# Altium schematic symbol library Resistors.SchLib: 102 symbols
Pins are listed as number, name and electrical type; pins without a type are passive.

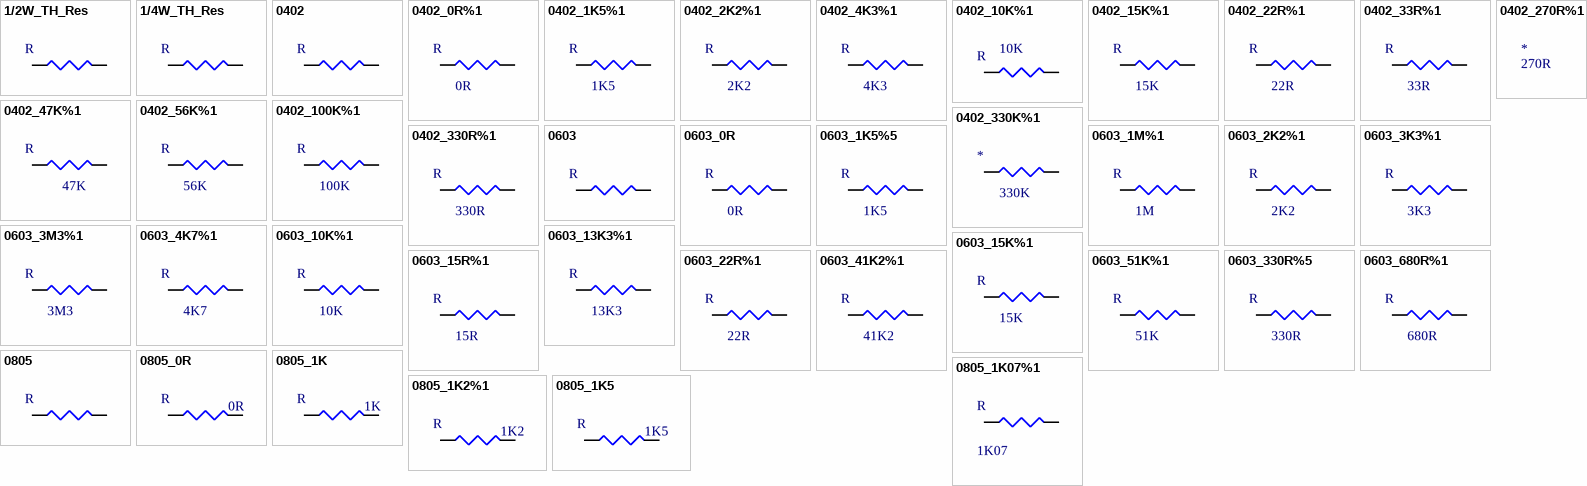
[diagram p0: symbols 1/2W_TH_Res to 0805_1K07%1]

## 1/2W_TH_Res
designator R  (value not drawn)
footprint 1/2W RES
pins: 1, 2

## 1/4W_TH_Res
designator R  (value not drawn)
footprint 1/4W RES
footprint 1/4W RES Vertical
pins: 1, 2

## 0402
designator R  (value not drawn)
footprint 0402 Resistor
pins: 1, 2

## 0402_0R%1
designator R  value 0R  (hidden comment: *)
Manufacturer: VISHAY DRALORIC; Manufacturer Code: CRCW04020000Z0ED; Tolerance: ±1%; Temperature Coefficient: ±100ppm/°C; Power Rating: 125mW; Farnell Code: 1469661; Unit Price: 0,027 €
footprint 0402 Resistor
pins: 1, 2

## 0402_1K5%1
designator R  value 1K5  (hidden comment: *)
Manufacturer: VISHAY DRALORIC; Manufacturer Code: CRCW04021K50FKEAHP; Tolerance: ±1%; Temperature Coefficient: ±100ppm/°C; Power Rating: 125mW; Farnell Code: 1738852; Unit Price: 0,031 €
footprint 0402 Resistor
pins: 1, 2

## 0402_2K2%1
designator R  value 2K2  (hidden comment: *)
Manufacturer: VISHAY DRALORIC; Manufacturer Code: CRCW04022K20FKEAHP; Tolerance: ±1%; Temperature Coefficient: ±100ppm/°C; Power Rating: 125mW; Farnell Code: 1738854; Unit Price: 0,031 €
footprint 0402 Resistor
pins: 1, 2

## 0402_4K3%1
designator R  value 4K3  (hidden comment: *)
Manufacturer: VISHAY DRALORIC; Manufacturer Code: CRCW04024K30FKED; Tolerance: ±1%; Temperature Coefficient: ±100ppm/°C; Power Rating: 125mW; Farnell Code: 2140828; Unit Price: 0,013 €
footprint 0402 Resistor
pins: 1, 2

## 0402_10K%1
designator R  value 10K  (hidden comment: *)
Manufaturer: VISHAY DRALORIC; Manufacturer Code: CRCW040210K0FKEAHP; Tolerance: ±1%; Temperature Coefficient: ±100ppm/°C; Power Rating: 125mW; Farnell Code: 1738864; Unit Price: 0,031 €
footprint 0402 Resistor
pins: 1, 2

## 0402_15K%1
designator R  value 15K  (hidden comment: *)
Manufacturer: WELWYN; Manufacturer Code: ASC0402-15KFT10; Tolerance: ±1%; Temperature Coefficient: ±100ppm/°C; Power Rating: 62.5mW; Farnell Code: 2078869; Unit Price: 0,0099 €; MOQ: 10
footprint 0402 Resistor
pins: 1, 2

## 0402_22R%1
designator R  value 22R  (hidden comment: *)
Manufacturer: MULTICOMP; Manufacturer Code: MC00625W0402122R; Tolerance: ±1%; Temperature Coefficient: ±200ppm/°C; Power Rating: 62.5mW; Farnell Code: 1357998RL; Unit Price: 0,0016 €; MOQ: 1
footprint 0402 Resistor
pins: 1, 2

## 0402_33R%1
designator R  value 33R  (hidden comment: *)
Manufacturer: VISHAY DRALORIC; Manufacturer Code: CRCW040233R0FKEAHP; Tolerance: ±1%; Temperature Coefficient: ±100ppm/K; Power Rating: 125mW; Farnell Code: 1738830; Unit Price: 0,031 €
footprint 0402 Resistor
pins: 1, 2

## 0402_47K%1
designator R  value 47K  (hidden comment: *)
Manufacturer: VISHAY DRALORIC; Manufacturer Code: CRCW040247K0FKED; Tolerance: ±1%; Temperature Coefficient: ±100ppm/°C; Power Rating: 125mW; Farnell Code: 2121814; Unit Price: 0,003 €
footprint 0402 Resistor
pins: 1, 2

## 0402_56K%1
designator R  value 56K  (hidden comment: *)
Manufacturer: VISHAY DRALORIC; Manufacturer Code: CRCW040256K0FKEAHP; Tolerance: ±1%; Power Rating: 125mW; Temperature Coefficient: ±100ppm/K; Farnell Code: 1738874; Unit Price: 0,031 €
footprint 0402 Resistor
pins: 1, 2

## 0402_100K%1
designator R  value 100K  (hidden comment: *)
Manufacturer: VISHAY DRALORIC; Manufacturer Code: CRCW0402100KFKEAHP; Tolerance: ±1%; Temperature Coefficient: ±100ppm/K; Power Rating: 125mW; Farnell Code: 1738877; Unit Price: 0,031 €
footprint 0402 Resistor
pins: 1, 2

## 0402_270R%1
designator *  value 270R  (hidden comment: *)
Manufacturer: VISHAY DRALORIC; Manufacturer Code: CRCW0402270RFKEAHP; Tolerance: ±1%; Temperature Coefficient: ±100ppm/K; Power Rating: 125mW; Farnell Code: 1738842; Unit Price: 0,031 €
footprint 0402 Resistor

## 0402_330K%1
designator *  value 330K  (hidden comment: *)
Manufacturer: VISHAY DRALORIC; Manufacturer Code: CRCW0402330KFKED; Tolerance: ±1%; Temperature Coefficient: ±100ppm/°C; Power Rating: 125mW; Farnell Code: 2140980; Unit Price: 0,013 €
footprint 0402 Resistor
pins: 1, 2

## 0402_330R%1
designator R  value 330R  (hidden comment: *)
Manufacturer: VISHAY DRALORIC; Manufacturer Code: CRCW0402330RFKEAHP; Tolerance: ±1%; Temperature Coefficient: ±100ppm/°C; Power Rating: 125mW; Farnell Code: 1738843; Unit Price: 0,036 €
footprint 0402 Resistor
pins: 1, 2

## 0603
designator R  (value not drawn)
footprint 0603 Resistor
pins: 1, 2

## 0603_0R
designator R  value 0R  (hidden comment: *)
Manufacturer: MULTICOMP; Manufacturer Code: MC0063W06030R; Power Rating: 63mW; Tolerance: -; Farnell Code: 9331662; Unit Price: 0,0097 €; Temperature Coefficient: -; MOQ: 10; Package: 0603
footprint 0603 Resistor
pins: 1, 2

## 0603_1K5%5
designator R  value 1K5  (hidden comment: *)
Manufacturer: MULTICOMP; Manufacturer Code: MC0063W060351K5; Tolerance: ±1%; Temperature Coefficient: ±100ppm/°C; Power Rating: 63mW; Farnell Code: 9331808; Unit Price: 0,0098 €; MOQ: 10; Package: 0603
footprint 0603 Resistor
pins: 1, 2

## 0603_1M%1
designator R  value 1M  (hidden comment: *)
Manufacturer: MULTICOMP; Manufacturer Code: MCMR06X1004FTL; Tolerance: ±1%; Temperature Coefficient: ±100ppm/°C; Power Rating: 100mW; Farnell Code: 2073351; Unit Price: 0,0139 €; MOQ: 10; Package: 0603
footprint 0603 Resistor
pins: 1, 2

## 0603_2K2%1
designator R  value 2K2  (hidden comment: *)
Manufacturer: MULTICOMP; Manufacturer Code: MCMR06X2201FTL; Tolerance: ±1%; Temperature Coefficient: ±100ppm/°C; Power Rating: 100mW; Farnell Code: 2073429; Unit Price: 0,0151 €; MOQ: 10; Package: 0603
footprint 0603 Resistor
pins: 1, 2

## 0603_3K3%1
designator R  value 3K3  (hidden comment: *)
Manufacturer: MULTICOMP; Manufacturer Code: MCSR06X3301FTL; Tolerance: ±1%; Temperature Coefficient: ±100ppm/°C; Power Rating: 100mW; Farnell Code: 2074241; Unit Price: 0,0208 €; MOQ: 10; Package: 0603
footprint 0603 Resistor
pins: 1, 2

## 0603_3M3%1
designator R  value 3M3  (hidden comment: *)
Manufacturer: MULTICOMP; Manufacturer Code: MCMR06W3304FTL; Tolerance: ±1%; Temperature Coefficient: ±100ppm/°C; Power Rating: 100mW; Farnell Code: 2073343; Unit Price: 0,0235 €; MOQ: 10; Package: 0603
footprint 0603 Resistor
pins: 1, 2

## 0603_4K7%1
designator R  value 4K7  (hidden comment: *)
Manufacturer: MULTICOMP; Manufacturer Code: MCMR06X4701FTL; Tolerance: ±1%; Temperature Coefficient: ±100ppm/°C; Power Rating: 100mW; Farnell Code: 2073509; Unit Price: 0,0148 €; MOQ: 10; Package: 0603
footprint 0603 Resistor
pins: 1, 2

## 0603_10K%1
designator R  value 10K  (hidden comment: *)
Manufacturer: MULTICOMP; Manufacturer Code: MCMR06X1002FTL; Tolerance: ±1%; Temperature Coefficient: ±100ppm/°C; Power Rating: 100mW; Farnell Code: 2073349; Unit Price: 0,0142 €; MOQ: 10; Package: 0603
footprint 0603 Resistor
pins: 1, 2

## 0603_13K3%1
designator R  value 13K3  (hidden comment: *)
Manufacturer: VISHAY; Manufacturer Code: CRCW060313K3FKEA; Tolerance: ±1%; Temperature Coefficient: ±100ppm/°C; Power Rating: 100mW; Farnell Code: 1652840; Unit Price: 0,0137 €; MOQ: 10; Package: 0603
footprint 0603 Resistor
pins: 1, 2

## 0603_15K%1
designator R  value 15K  (hidden comment: *)
Manufacturer: MULTICOMP; Manufacturer Code: MC0063W0603115K; Tolerance: ±1%; Temperature Coefficient: ±100ppm/°C; Power Rating: 62.5mW; Farnell Code: 9330615; Unit Price: 0,0013 €; MOQ: 10; Package: 0603
footprint 0603 Resistor
pins: 1, 2

## 0603_15R%1
designator R  value 15R  (hidden comment: *)
Manufacturer: MULTICOMP; Manufacturer Code: MC0063W0603311R15; Tolerance: ±1%; Temperature Coefficient: ±400ppm/°C; Power Rating: 63mW; Farnell Code: 2141507; Unit Price: 0,0048 €; MOQ: 10; Package: 0603
footprint 0603 Resistor
pins: 1, 2

## 0603_22R%1
designator R  value 22R  (hidden comment: *)
Manufacturer: MULTICOMP; Manufacturer Code: MC0063W0603522R; Tolerance: ±5%; Temperature Coefficient: ±200ppm/°C; Power Rating: 63mW; Farnell Code: 9331891; Unit Price: 0,0096 €; MOQ: 10; Package: 0603
footprint 0603 Resistor
pins: 1, 2

## 0603_41K2%1
designator R  value 41K2  (hidden comment: *)
Manufacturer: MULTICOMP; Manufacturer Code: MC0063W0603141K2; Tolerance: ±1%; Temperature Coefficient: ±100ppm/°C; Power Rating: 63mW; Farnell Code: 1170949; Unit Price: 0,0172 €; MOQ: 10; Package: 0603
footprint 0603 Resistor
pins: 1, 2

## 0603_51K%1
designator R  value 51K  (hidden comment: *)
Manufacturer: MULTICOMP; Manufacturer Code: MCWR06X5102FTL; Tolerance: ±1%; Temperature Coefficient: ±100ppm/°C; Power Rating: 100mW; Farnell Code: 2447393; Unit Price: 0,0036 €; MOQ: 10; Package: 0603
footprint 0603 Resistor
pins: 1, 2

## 0603_330R%5
designator R  value 330R  (hidden comment: *)
Manufacturer: MULTICOMP; Manufacturer Code: MC0063W06035330R; Tolerance: ±1%; Temperature Coefficient: ±200ppm/°C; Power Rating: 63mW; Farnell Code: 9332014; Unit Price: 0,0097 €; MOQ: 10; Package: 0603
footprint 0603 Resistor
pins: 1, 2

## 0603_680R%1
designator R  value 680R  (hidden comment: *)
Manufacturer: MULTICOMP; Manufacturer Code: MCMR06X6800FTL; Tolerance: ±1%; Temperature Coefficient: ±100ppm/°C; Power Rating: 100mW; Farnell Code: 2073557; Unit Price: 0,0142 €; MOQ: 10; Package: 0603
footprint 0603 Resistor
pins: 1, 2

## 0805
designator R  (value not drawn)
footprint 0805 Resistor
pins: 1, 2

## 0805_0R
designator R  value 0R  (hidden comment: *)
Manufacturer Code: MC 0.1W 0805 0R; Manufacturer: MULTICOMP; Farnell Code: 9333681; Unit Price: 0,028 €
footprint 0805 Resistor
pins: 1, 2

## 0805_1K
designator R  value 1K  (hidden comment: *)
Manufacturer Code: MC01W080511K; Manufacturer: MULTICOMP; Tolerance: ±1%; Farnell Code: 9332383; Unit Price: 0,03 €
footprint 0805 Resistor
pins: 1, 2

## 0805_1K2%1
designator R  value 1K2  (hidden comment: *)
Manufacturer Code: MC 0.1W 0805 1% 1K2; Manufacturer: MULTICOMP; Tolerance: ±1%; Farnell Code: 9332499; Unit Price: 0,03 €
footprint 0805 Resistor
pins: 1, 2

## 0805_1K5
designator R  value 1K5  (hidden comment: *)
Manufacturer Code: MCPWR05FTEW1501; Manufacturer: MULTICOMP; Tolerance: ±1%; Farnell Code: 1887285; Unit Price: 0,047 €
footprint 0805 Resistor
pins: 1, 2

## 0805_1K07%1
designator R  value 1K07  (hidden comment: *)
Manufacturer: VISHAY DALE; Manufacturer Code: CRCW08051K07FKEA; Tolerance: ±1%; Farnell Code: 1258433; Unit Price: 0,012 €
footprint 0805 Resistor
pins: 1, 2

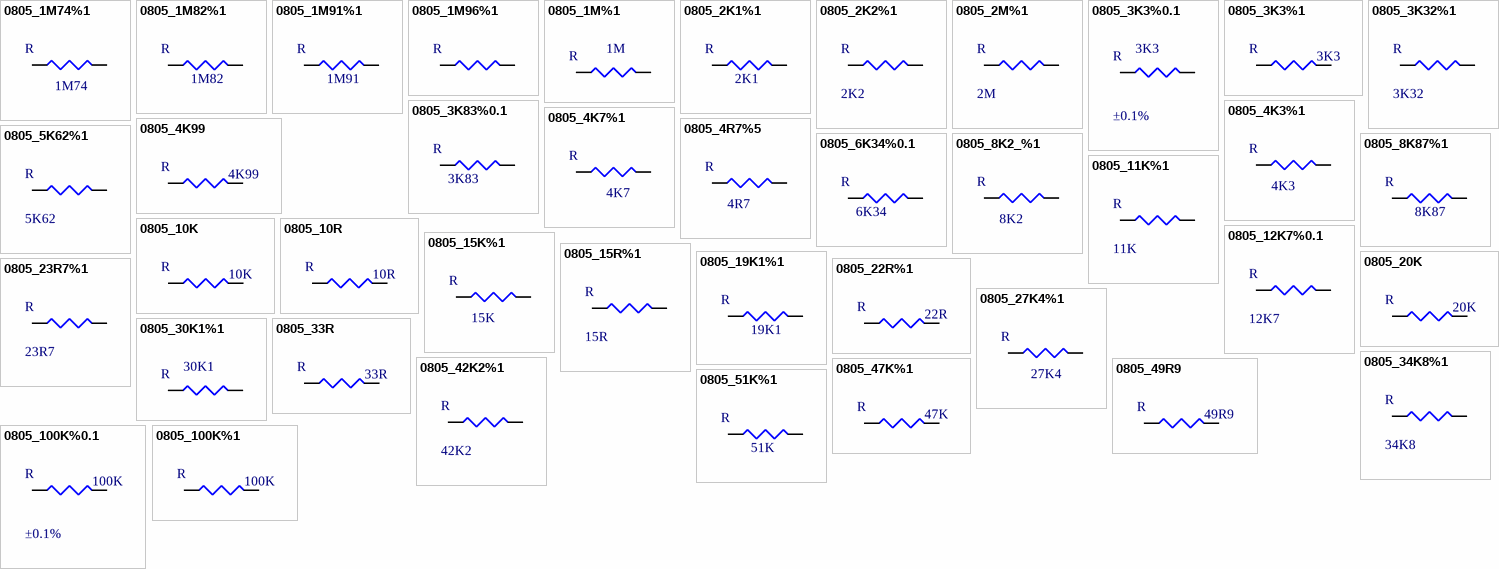
[diagram p1: symbols 0805_1M74%1 to 0805_100K%1]

## 0805_1M74%1
designator R  value 1M74  (hidden comment: *)
Manufacturer Code: CRCW08051M74FKEA; Manufacturer: VISHAY DRALORIC; Tolerance: ±1%; Temperature Coefficient: ±100ppm/°C; Power Rating: 125mW; Unit Price: 0,008 €; Farnell Code: 2139144
footprint 0805 Resistor
pins: 1, 2

## 0805_1M82%1
designator R  value 1M82  (hidden comment: *)
Manufacturer Code: CRCW08051M82FKEA; Manufacturer: VISHAY DRALORIC; Tolerance: ±1%; Temperature Coefficient: ±100ppm/°C; Power Rating: 125mW; Unit Price: 0,008 €; Farnell Code: 2139148
footprint 0805 Resistor
pins: 1, 2

## 0805_1M91%1
designator R  value 1M91  (hidden comment: *)
Manufacturer Code: CRCW08051M91FKEA; Manufacturer: VISHAY DRALORIC; Tolerance: ±1%; Temperature Coefficient: ±100ppm/°C; Power Rating: 125mW; Unit Price: 0,008 €; Farnell Code: 2139150
footprint 0805 Resistor
pins: 1, 2

## 0805_1M96%1
designator R  (value not drawn)
Manufacturer Code: CRCW08051M96FKEA; Manufacturer: VISHAY DRALORIC; Value: 1M96; Tolerance: ±1%; Temperature Coefficient: ±100ppm/°C; Power Rating: 125mW; Unit Price: 0,008 €; Farnell Code: 2139151
footprint 0805 Resistor
pins: 1, 2

## 0805_1M%1
designator R  value 1M  (hidden comment: *)
Manufacturer: MULTICOMP; Manufacturer Code: MC 0.1W 0805 1% 1M; Tolerance: ±1%; Farnell Code: 9332413; Unit Price: 0,03 €
footprint 0805 Resistor
pins: 1, 2

## 0805_2K1%1
designator R  value 2K1  (hidden comment: *)
Manufacturer Code: CRCW08052K10FKEA; Manufacturer: VISHAY DRALORIC; Tolerance: ±1%; Temperature Coefficient: ±100ppm/°C; Power Rating: 125mW; Unit Price: 0,008 €; Farnell Code: 2138945
footprint 0805 Resistor
pins: 1, 2

## 0805_2K2%1
designator R  value 2K2  (hidden comment: *)
Manufacturer: MULTICOMP; Manufacturer Code: MC 0.1W 0805 1% 2K2; Tolerance: ±1%; Temp. Coefficient: ±100ppm/°C; Farnell Code: 9332812; Unit Price: 0,033 €
footprint 0805 Resistor
pins: 1, 2

## 0805_2M%1
designator R  value 2M  (hidden comment: *)
Manufacturer: VISHAY DRALORIC; Manufacturer Code: CRCW08052M00FKEA; Tolerance: ±1%; Farnell Code: 1469652; Unit Price: 0,018 €
footprint 0805 Resistor
pins: 1, 2

## 0805_3K3%0.1
designator R  value 3K3  Tolerance: ±0.1%  (hidden comment: *)
Manufacturer Code: ERA6AEB332V; Manufacturer: PANASONIC; Farnell Code: 1577665; Unit Price: 0,38 €
footprint 0805 Resistor
pins: 1, 2

## 0805_3K3%1
designator R  value 3K3  (hidden comment: *)
Manufacturer Code: MC 0.1W 0805 1% 3K3; Manufacturer: MULTICOMP; Tolerance: ±1%; Farnell Code: 9333045; Unit Price: 0,03 €
footprint 0805 Resistor
pins: 1, 2

## 0805_3K32%1
designator R  value 3K32  (hidden comment: *)
Manufacturer: VISHAY DRALORIC; Manufacturer Code: CRCW08053K32FKEA; Tolerance: ±1%; Unit Price: 0,018 €; Farnell Code: 1469912
footprint 0805 Resistor
pins: 1, 2

## 0805_3K83%0.1
designator R  value 3K83  (hidden comment: *)
Manufacturer Code: RN73C2A3K83BTDF; Manufacturer: TE CONNECTIVITY; Tolerance: ±0.1%; Temperature Coefficient: ±10ppm/°C; Power Rating: 100mW; Unit Price: 0,0728 €; Farnell Code: 1140867; Package: 0805; MOQ: 1
footprint 0805 Resistor
pins: 1, 2

## 0805_4K3%1
designator R  value 4K3  (hidden comment: *)
Manufacturer Code: MC01W080514K3; Manufacturer: MULTICOMP; Tolerance: ±1%; Temperature Coefficient: ±100ppm/°C; Power Rating: 100mW; Unit Price: 0,035 €; Farnell Code: 9333215
footprint 0805 Resistor
pins: 1, 2

## 0805_4K7%1
designator R  value 4K7  (hidden comment: *)
Manufacturer Code: PCF0805P-R-4K7-BT1; Manufacturer: WELWYN; Tolerance: ±0.1%; Temperature Coefficient: ±25ppm/°C; Power Rating: 100mW; Unit Price: 0,34; Farnell Code: 1506096; MOQ: 5
footprint 0805 Resistor
pins: 1, 2

## 0805_4K99
designator R  value 4K99  (hidden comment: *)
Manufacturer Code: ERJ6ENF4991V; Manufacturer: PANASONIC; Tolerance: ±1%; Farnell Code: 2057625; Unit Price: 0,02
footprint 0805 Resistor
pins: 1, 2

## 0805_4R7%5
designator R  value 4R7  (hidden comment: *)
Manufacturer Code: CRCW08054R70JNEA; Manufacturer: VISHAY DALE; Tolerance: %5; Temperature Coefficient: ±100ppm/°C; Power Rating: 125mW; Unit Price: 0,005€; Farnell Code: 1514865
footprint 0805 Resistor
pins: 1, 2

## 0805_5K62%1
designator R  value 5K62  (hidden comment: *)
Manufacturer Code: CRCW08055K62FKEA; Manufacturer: VISHAY DRALORIC; Tolerance: ±1%; Farnell Code: 1469942; Unit Price: 0,018 €
footprint 0805 Resistor
pins: 1, 2

## 0805_6K34%0.1
designator R  value 6K34  (hidden comment: *)
Manufacturer Code: RN73C2A6K34BTDF; Manufacturer: TE CONNECTIVITY; Tolerance: ±0.1%; Temperature Coefficient: ±10ppm/°C; Power Rating: 100mW; Unit Price: 1,14; Farnell Code: 1140890; Package: 0805; MOQ: 5
footprint 0805 Resistor
pins: 1, 2

## 0805_8K2_%1
designator R  value 8K2  (hidden comment: *)
Manufacturer Code: MC 0.1W 0805 1% 8K2; Manufacturer: MULTICOMP; Tolerance: ±1%; Farnell Code: 9333584; Unit Price: 0,03 €
footprint 0805 Resistor
pins: 1, 2

## 0805_8K87%1
designator R  value 8K87  (hidden comment: *)
Manufacturer Code: CRCW08058K87FKEA; Manufacturer: VISHAY DRALORIC; Tolerance: ±1%; Temperature Coefficient: ±100ppm/°C; Power Rating: 125mW; Unit Price: 0,021 €; Farnell Code: 2138973
footprint 0805 Resistor
pins: 1, 2

## 0805_10K
designator R  value 10K  (hidden comment: *)
Manufacturer Code: MC 0.1W 0805 1% 10K; Manufacturer: MULTICOMP; Tolerance: ±1%; Farnell Code: 9332391; Unit Price: 0,03 €
footprint 0805 Resistor
pins: 1, 2

## 0805_10R
designator R  value 10R  (hidden comment: *)
Manufacturer Code: CRCW080510R0FKEA; Manufacturer: VISHAY DRALORIC; Tolerance: ±1%; Farnell Code: 1469859; Unit Price: 0,017 €
footprint 0805 Resistor
pins: 1, 2

## 0805_11K%1
designator R  value 11K  (hidden comment: *)
Manufacturer Code: MC1W0805111K; Manufacturer: MULTICOMP; Tolerance: ±1%; Temperature Coefficient: ±100ppm/°C; Power Rating: 100mW; Unit Price: 0,034 €; Farnell Code: 9332456
footprint 0805 Resistor
pins: 1, 2

## 0805_12K7%0.1
designator R  value 12K7  (hidden comment: *)
Manufacturer: MULTICOMP; Manufacturer Code: MCTC0525B1272T5E; Tolerance: ±0.1%; Farnell Code: 1575914; Unit Price: 0,055 €
footprint 0805 Resistor
pins: 1, 2

## 0805_15K%1
designator R  value 15K  (hidden comment: *)
Manufacturer: MULTICOMP; Manufacturer Code: MC1W0805115K; Tolerance: ±1%; Temperature Coefficient: ±100ppm/°C; Power Rating: 100mW; Farnell Code: 9332618; Unit Price: 0,033 €
footprint 0805 Resistor
pins: 1, 2

## 0805_15R%1
designator R  value 15R  (hidden comment: *)
Manufacturer: MULTICOMP; Manufacturer Code: MC 0.1W 0805 1% 15R; Tolerance: ±1%; Temp. Coefficient: ±200ppm/°C; Farnell Code: 9332634; Unit Price: 0,035 €
footprint 0805 Resistor
pins: 1, 2

## 0805_19K1%1
designator R  value 19K1  (hidden comment: *)
Manufacturer Code: CRCW080519K1FKEA; Manufacturer: VISHAY DRALORIC; Tolerance: ±1%; Temperature Coefficient: ±100ppm/°C; Power Rating: 125mW; Unit Price: 0,026 €; Farnell Code: 1692532
footprint 0805 Resistor
pins: 1, 2

## 0805_20K
designator R  value 20K  (hidden comment: *)
Manufacturer Code: MC 0.1W 0805 1% 20K; Manufacturer: MULTICOMP; Tolerance: ±1%; Farnell Code: 9332774; Unit Price: 0,03 €
footprint 0805 Resistor
pins: 1, 2

## 0805_22R%1
designator R  value 22R  (hidden comment: *)
Manufacturer Code: MC01W0805122R; Manufacturer: MULTICOMP; Tolerance: ±1%; Farnell Code: 9332847; Unit Price: 0,02 €; MOQ: 10
footprint 0805 Resistor
pins: 1, 2

## 0805_23R7%1
designator R  value 23R7  (hidden comment: *)
Manufacturer: MULTICOMP; Manufacturer Code: MCTC0525B237JT5E; Tolerance: ±1%; Farnell Code: 1575447; Unit Price: 0,055 €
footprint 0805 Resistor
pins: 1, 2

## 0805_27K4%1
designator R  value 27K4  (hidden comment: *)
Manufacturer Code: CRCW080527K4FKEA; Manufacturer: VISHAY DRALORIC; Tolerance: ±1%; Temperature Coefficient: ±100ppm/°C; Power Rating: 125mW; Unit Price: 0,087 €; Farnell Code: 1652971
footprint 0805 Resistor
pins: 1, 2

## 0805_30K1%1
designator R  value 30K1  (hidden comment: *)
Manufacturer: PANASONIC; Manufacturer Code: ERJ6ENF3012V; Tolerance: ±1%; Farnell Code: 2057646; Unit Price: 0,02 €
footprint 0805 Resistor
pins: 1, 2

## 0805_33R
designator R  value 33R  (hidden comment: *)
Manufacturer Code: MC 0.1W 0805 1% 33R; Manufacturer: MULTICOMP; Tolerance: ±1%; Farnell Code: 9333088; Unit Price: 0,03 €
footprint 0805 Resistor
pins: 1, 2

## 0805_34K8%1
designator R  value 34K8  (hidden comment: *)
Manufacturer Code: MC01W0805134K8; Manufacturer: MULTICOMP; Tolerance: ±1%; Temperature Coefficient: ±100ppm/°C; Power Rating: 100mW; Unit Price: 0,046 €; Farnell Code: 2141874
footprint 0805 Resistor
pins: 1, 2

## 0805_42K2%1
designator R  value 42K2  (hidden comment: *)
Manufacturer: VISHAY DRALORIC; Manufacturer Code: CRCW080542K2FKEA; Tolerance: ±1%; Farnell Code: 1469928; Unit Price: 0,029 €
footprint 0805 Resistor
pins: 1, 2

## 0805_47K%1
designator R  value 47K  (hidden comment: *)
Manufacturer Code: MC 0.1W 0805 1% 47K; Manufacturer: MULTICOMP; Tolerance: ±1%; Farnell Code: 9333274; Unit Price: 0,031 €
footprint 0805 Resistor
pins: 1, 2

## 0805_49R9
designator R  value 49R9  (hidden comment: *)
Manufacturer Code: RR1220Q-49R9-D-M; Manufacturer: SUSUMU; Tolerance: ±0.5%; Farnell Code: 1612051; Unit Price: 0,019 €
footprint 0805 Resistor
pins: 1, 2

## 0805_51K%1
designator R  value 51K  (hidden comment: *)
Manufacturer Code: CRCW080551K0FKEA; Manufacturer: VISHAY DRALORIC; Tolerance: ±1%; Temperature Coefficient: ±100ppm/°C; Power Rating: 125mW; Unit Price: 0,085 €; Farnell Code: 2133343
footprint 0805 Resistor
pins: 1, 2

## 0805_100K%0.1
designator R  value 100K  Tolerance: ±0.1%  (hidden comment: *)
Manufacturer Code: CRT0805-BY-1003ELF; Manufacturer: BOURNS; Farnell Code: 2008315; Unit Price: 0,22 €
footprint 0805 Resistor
pins: 1, 2

## 0805_100K%1
designator R  value 100K  (hidden comment: *)
Manufacturer Code: MC01W08051100K; Manufacturer: MULTICOMP; Tolerance: ±1%; Farnell Code: 9332405; Unit Price: 0,03 €
footprint 0805 Resistor
pins: 1, 2

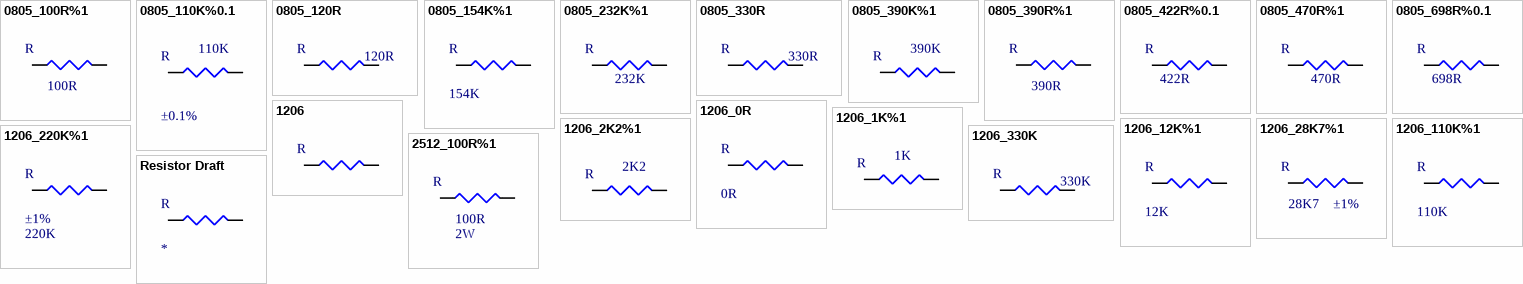
[diagram p2: symbols 0805_100R%1 to Resistor Draft]

## 0805_100R%1
designator R  value 100R  (hidden comment: *)
Manufacturer Code: MC 0.1W 0805 1% 100R; Manufacturer: MULTICOMP; Tolerance: ±1%; Farnell Code: 9332375; Unit Price: 0,03 €
footprint 0805 Resistor
pins: 1, 2

## 0805_110K%0.1
designator R  value 110K  Tolerance: ±0.1%  (hidden comment: *)
Manufacturer Code: ERA6AEB114V; Manufacturer: PANASONIC; Farnell Code: 1670254; Unit Price: 0,122 €
footprint 0805 Resistor
pins: 1, 2

## 0805_120R
designator R  value 120R  (hidden comment: *)
Manufacturer Code: MC 0.1W 0805 1% 120R; Manufacturer: MULTICOMP; Tolerance: ±1%; Farnell Code: 9332480; Unit Price: 0,03 €
footprint 0805 Resistor
pins: 1, 2

## 0805_154K%1
designator R  value 154K  (hidden comment: *)
Manufacturer Code: CRCW0805154KFKEA; Manufacturer: VISHAY DRALORIC; Tolerance: ±1%; Temperature Coefficient: ±100ppm/°C; Power Rating: 125mW; Unit Price: 0,03 €; Farnell Code: 1692531
footprint 0805 Resistor
pins: 1, 2

## 0805_232K%1
designator R  value 232K  (hidden comment: *)
Manufacturer Code: CRCW0805232KFKEA; Manufacturer: VISHAY DRALORIC; Tolerance: ±1%; Temperature Coefficient: ±100ppm/°C; Power Rating: 125mW; Unit Price: 0,008 €; Farnell Code: 2139052
footprint 0805 Resistor
pins: 1, 2

## 0805_330R
designator R  value 330R  (hidden comment: *)
Manufacturer Code: MC 0.1W 0805 1% 330R; Manufacturer: MULTICOMP; Tolerance: ±1%; Farnell Code: 9333037; Unit Price: 0,03 €
footprint 0805 Resistor
pins: 1, 2

## 0805_390K%1
designator R  value 390K  (hidden comment: *)
Manufacturer Code: MC 0.1W 0805 1% 390K; Manufacturer: MULTICOMP; Tolerance: ±1%; Farnell Code: 9333185; Unit Price: 0,03 €
footprint 0805 Resistor
pins: 1, 2

## 0805_390R%1
designator R  value 390R  (hidden comment: *)
Manufacturer Code: MC 0.1W 0805 1% 390R; Manufacturer: MULTICOMP; Tolerance: ±1%; Unit Price: 0,034 €; Farnell Code: 9333150
footprint 0805 Resistor (Footprint not found)
pins: 1, 2

## 0805_422R%0.1
designator R  value 422R  (hidden comment: *)
Manufacturer Code: MCTC0525B4220T5E; Manufacturer: MULTICOMP; Tolerance: ±0.1%; Temperature Coefficient: ±25ppm/°C; Power Rating: 100mW; Unit Price: 0,073 €; Farnell Code: 1575707; Package: 0805; MOQ: 5
footprint 0805 Resistor
pins: 1, 2

## 0805_470R%1
designator R  value 470R  (hidden comment: *)
Manufacturer Code: CRCW0805470RFKEA; Manufacturer: VISHAY DRALORIC; Tolerance: ±1%; Temperature Coefficient: ±100ppm/°C; Power Rating: 125mW; Unit Price: 0,027 €; Farnell Code: 1469932
footprint 0805 Resistor
pins: 1, 2

## 0805_698R%0.1
designator R  value 698R  (hidden comment: *)
Manufacturer Code: MCTC0525B6980T5E; Manufacturer: MULTICOMP; Tolerance: ±0.1%; Temperature Coefficient: ±25ppm/°C; Power Rating: 100mW; Unit Price: 0,22 €; Farnell Code: 1575755; Package: 0805; MOQ: 5
footprint 0805 Resistor
pins: 1, 2

## 1206
designator R  (value not drawn)
footprint 1206 Resistor
pins: 1, 2

## 1206_0R
designator R  value 0R  (hidden comment: *)
Manufacturer Code: MC0125W12060R; Manufacturer: MULTICOMP; Tolerance: ±1%; Temperature Coefficient: ±100ppm/°C; Power Rating: 125mW; Unit Price: 0,035 €; Farnell Code: 9336974
footprint 1206 Resistor
pins: 1, 2

## 1206_1K%1
designator R  value 1K  (hidden comment: *)
Manufacturer Code: MC0125W120611K; Manufacturer: MULTICOMP; Tolerance: ±1%; Farnell Code: 9335757; Unit Price: 0,034 €
footprint 1206 Resistor
pins: 1, 2

## 1206_2K2%1
designator R  value 2K2  (hidden comment: *)
Manufacturer Code: MC 0.125W 1206 1% 2K2; Manufacturer: MULTICMOP; Tolerance: ±1%; Farnell Code: 9336168; Unit Price: 0,032 €
footprint 1206 Resistor
pins: 1, 2

## 1206_12K%1
designator R  value 12K  (hidden comment: *)
Manufacturer Code: MC0125W1206112K; Manufacturer: MULTICOMP; Tolerance: ±1%; Temperature Coefficient: ±100ppm/°C; Power Rating: 125mW; Unit Price: 0,038 €; Farnell Code: 9335870
footprint 1206 Resistor
pins: 1, 2

## 1206_28K7%1
designator R  value 28K7  Tolerance: ±1%  (hidden comment: *)
Manufacturer Code: CRCW120628K7FKEA; Manufacturer: VISHAY DALE; Farnell Code: 1260873; Unit Price: 0,016 €
footprint 1206 Resistor
pins: 1, 2

## 1206_110K%1
designator R  value 110K  (hidden comment: *)
Manufacturer Code: MC0125W12061110K; Manufacturer: MULTICOMP; Tolerance: ±1%; Temperature Coefficient: ±100ppm/°C; Power Rating: 125mW; Unit Price: 0,009 €; Farnell Code: 9335838
footprint 1206 Resistor
pins: 1, 2

## 1206_220K%1
designator R  value 220K  Tolerance: ±1%  (hidden comment: *)
Manufacturer Code: CRCW1206220KFKEA; Manufacturer: VISHAY DALE; Farnell Code: 1152834; Unit Price: 0,016 €
footprint 1206 Resistor
pins: 1, 2

## 1206_330K
designator R  value 330K  (hidden comment: *)
Manufacturer Code: ERA8AEB334V; Manufacturer: PANASONIC; Tolerance: ±0.1%; Farnell Code: 1841807; Unit Price: 0,32 €
footprint 1206 Resistor
pins: 1, 2

## 2512_100R%1
designator R  value 100R  Power: 2W  (hidden comment: *)
Manufacturer: TE CONNECTIVITY; Manufacturer Code: 3521100RFT; Tolerance: ±1%; Temperature Coefficient: ±100ppm/°C; Unit Price: 0,22 €; Farnell Code: 2117477
footprint 2512 RESISTOR
pins: 1, 2

## Resistor Draft
designator R
Unit Price: *; Tolerance: *; Temperature Coefficient: *; Power Rating: *; Manufacturer Code: *; Manufacturer: *; Farnell Code: *; Package: *; Value: *
footprint 0805 Resistor
pins: 1, 2